# Altium schematic symbol library TCKE805NA,RF.SchLib: 2 symbols
Pins are listed as number, name and electrical type; pins without a type are passive.

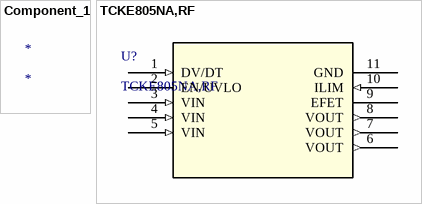
[diagram p0: symbols Component_1 to TCKE805NA,RF]

## Component_1
designator *

## TCKE805NA,RF
designator U?
No Description Available; Mfr_Name: Toshiba Electronic Devices & Storage Co.; Copyright: Copyright (C) 2022 Ultra Librarian. All rights reserved.; Manufacturer_Part_Number: TCKE805NA,RF; Digi-Key_Part_Number_1: 264-TCKE805NARFTR-ND; Digi-Key_Part_Number_2: 264-TCKE805NARFCT-ND; Digi-Key_Part_Number_3: 264-TCKE805NARFDKR-ND; RefDes: RefDes; Type: DEV
footprint WSON10B_TOS
pins: 1 DV/DT (in), 2 EN/UVLO, 3 VIN (in), 4 VIN (in), 5 VIN (in), 6 VOUT (out), 7 VOUT (out), 8 VOUT (out), 9 EFET, 10 ILIM (in), 11 GND